# Altium schematic symbol library WR-DSUB_Female.SchLib: 33 symbols
Pins are listed as number, name and electrical type; pins without a type are passive.

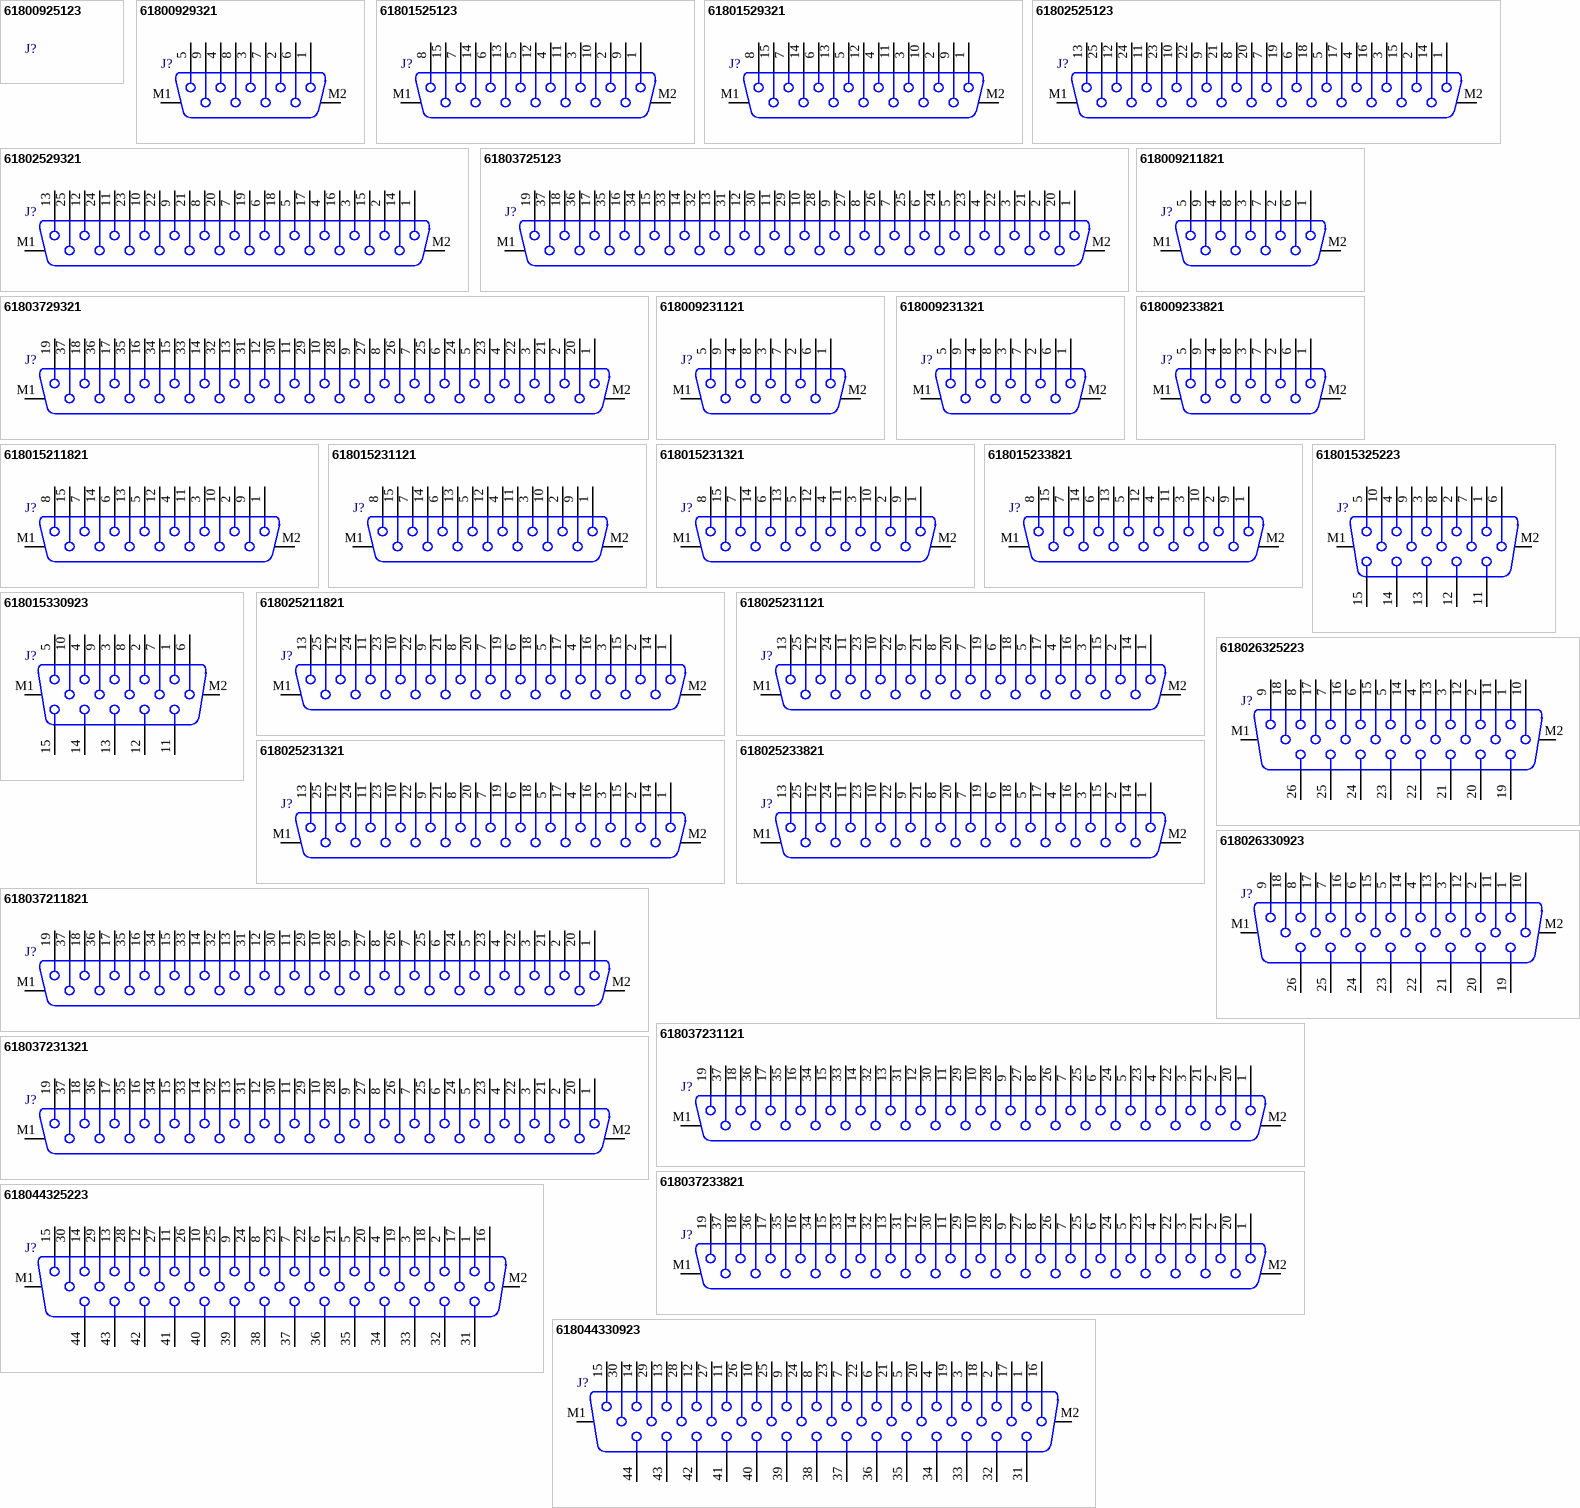
[diagram p0: symbols 61800925123 to 618044330923]

## 61800925123
designator J?
Female PCB Connector WR-DSUB, Vertical, 9 pins; Part Number: 61800925123; Pin Number: 9; Rated Current: 3 A; Contact Resistance: 30 mOhm; Working Voltage: 125 VAC; ComponentLink1Description: Manufacturer; ComponentLink1URL: http://www.we-online.de; ComponentLink2Description: Datasheet; ComponentLink2URL: https://katalog.we-online.de/em/datasheet/6180xx25123.pdf; Published Date: September 2018; Publisher: Wurth Elektronik; Orientation: Vertical; Operating Temperature: -40 to 85 degC; Mounting Technology: THT; Gender: Female; Packaging: Tray
footprint 61800925123

## 61800929321
designator J?
Female PCB Connector with Hex Screw WR-DSUB, Vertical, 9 pins; Part Number: 61800929321; Pin Number: 9; Rated Current: 3 A; Contact Resistance: 30 mOhm; Working Voltage: 125 VAC; ComponentLink1Description: Manufacturer; ComponentLink1URL: http://www.we-online.de; ComponentLink2Description: Datasheet; ComponentLink2URL: https://katalog.we-online.de/em/datasheet/6180xx29321.pdf; Published Date: September 2018; Publisher: Wurth Elektronik; Orientation: Vertical; Operating Temperature: -40 to 85 degC; Mounting Technology: THT; Gender: Female; Packaging: Tray
footprint 61800929321
pins: 1, 2, 3, 4, 5, 6, 7, 8, 9, M1, M2

## 61801525123
designator J?
Female PCB Connector WR-DSUB, Vertical, 15 pins; Part Number: 61801525123; Pin Number: 15; Rated Current: 3 A; Contact Resistance: 30 mOhm; Working Voltage: 125 VAC; ComponentLink1Description: Manufacturer; ComponentLink1URL: http://www.we-online.de; ComponentLink2Description: Datasheet; ComponentLink2URL: https://katalog.we-online.de/em/datasheet/6180xx25123.pdf; Published Date: September 2018; Publisher: Wurth Elektronik; Orientation: Vertical; Operating Temperature: -40 to 85 degC; Mounting Technology: THT; Gender: Female; Packaging: Tray
footprint 61801525123
pins: 1, 2, 3, 4, 5, 6, 7, 8, 9, 10, 11, 12, 13, 14, 15, M1, M2

## 61801529321
designator J?
Female PCB Connector with Hex Screw WR-DSUB, Vertical, 15 pins; Part Number: 61801529321; Pin Number: 15; Rated Current: 3 A; Contact Resistance: 30 mOhm; Working Voltage: 125 VAC; ComponentLink1Description: Manufacturer; ComponentLink1URL: http://www.we-online.de; ComponentLink2Description: Datasheet; ComponentLink2URL: https://katalog.we-online.de/em/datasheet/6180xx29321.pdf; Published Date: September 2018; Publisher: Wurth Elektronik; Orientation: Vertical; Operating Temperature: -40 to 85 degC; Mounting Technology: THT; Gender: Female; Packaging: Tray
footprint 61801529321
pins: 1, 2, 3, 4, 5, 6, 7, 8, 9, 10, 11, 12, 13, 14, 15, M1, M2

## 61802525123
designator J?
Female PCB Connector WR-DSUB, Vertical, 25 pins; Part Number: 61802525123; Pin Number: 25; Rated Current: 3 A; Contact Resistance: 30 mOhm; Working Voltage: 125 VAC; ComponentLink1Description: Manufacturer; ComponentLink1URL: http://www.we-online.de; ComponentLink2Description: Datasheet; ComponentLink2URL: https://katalog.we-online.de/em/datasheet/6180xx25123.pdf; Published Date: September 2018; Publisher: Wurth Elektronik; Orientation: Vertical; Operating Temperature: -40 to 85 degC; Mounting Technology: THT; Gender: Female; Packaging: Tray
footprint 61802525123
pins: 1, 2, 3, 4, 5, 6, 7, 8, 9, 10, 11, 12, 13, 14, 15, 16, 17, 18, 19, 20, 21, 22, 23, 24, 25, M1, M2

## 61802529321
designator J?
Female PCB Connector with Hex Screw WR-DSUB, Vertical, 25 pins; Part Number: 61802529321; Pin Number: 25; Rated Current: 3 A; Contact Resistance: 30 mOhm; Working Voltage: 125 VAC; ComponentLink1Description: Manufacturer; ComponentLink1URL: http://www.we-online.de; ComponentLink2Description: Datasheet; ComponentLink2URL: https://katalog.we-online.de/em/datasheet/6180xx29321.pdf; Published Date: September 2018; Publisher: Wurth Elektronik; Orientation: Vertical; Operating Temperature: -40 to 85 degC; Mounting Technology: THT; Gender: Female; Packaging: Tray
footprint 61802529321
pins: 1, 2, 3, 4, 5, 6, 7, 8, 9, 10, 11, 12, 13, 14, 15, 16, 17, 18, 19, 20, 21, 22, 23, 24, 25, M1, M2

## 61803725123
designator J?
Female PCB Connector WR-DSUB, Vertical, 37 pins; Part Number: 61803725123; Pin Number: 37; Rated Current: 3 A; Contact Resistance: 30 mOhm; Working Voltage: 125 VAC; ComponentLink1Description: Manufacturer; ComponentLink1URL: http://www.we-online.de; ComponentLink2Description: Datasheet; ComponentLink2URL: https://katalog.we-online.de/em/datasheet/6180xx25123.pdf; Published Date: September 2018; Publisher: Wurth Elektronik; Orientation: Vertical; Operating Temperature: -40 to 85 degC; Mounting Technology: THT; Gender: Female; Packaging: Tray
footprint 61803725123
pins: 1, 2, 3, 4, 5, 6, 7, 8, 9, 10, 11, 12, 13, 14, 15, 16, 17, 18, 19, 20, 21, 22, 23, 24, 25, 26, 27, 28, 29, 30, 31, 32, 33, 34, 35, 36, 37, M1, M2

## 61803729321
designator J?
Female PCB Connector with Hex Screw WR-DSUB, Vertical, 37 pins; Part Number: 61803729321; Pin Number: 37; Rated Current: 3 A; Contact Resistance: 30 mOhm; Working Voltage: 125 VAC; ComponentLink1Description: Manufacturer; ComponentLink1URL: http://www.we-online.de; ComponentLink2Description: Datasheet; ComponentLink2URL: https://katalog.we-online.de/em/datasheet/6180xx29321.pdf; Published Date: September 2018; Publisher: Wurth Elektronik; Orientation: Vertical; Operating Temperature: -40 to 85 degC; Mounting Technology: THT; Gender: Female; Packaging: Tray
footprint 61803729321
pins: 1, 2, 3, 4, 5, 6, 7, 8, 9, 10, 11, 12, 13, 14, 15, 16, 17, 18, 19, 20, 21, 22, 23, 24, 25, 26, 27, 28, 29, 30, 31, 32, 33, 34, 35, 36, 37, M1, M2

## 618009211821
designator J?
Female PCB Connector without Hex Screw WR-DSUB, 8.08 mm, Angled, 9 pins; Part Number: 618009211821; Pin Number: 9; Rated Current: 3 A; Contact Resistance: 30 mOhm; Working Voltage: 125 VAC; ComponentLink1Description: Manufacturer; ComponentLink1URL: http://www.we-online.de; ComponentLink2Description: Datasheet; ComponentLink2URL: https://katalog.we-online.de/em/datasheet/6180xx211821.pdf; Published Date: September 2018; Publisher: Wurth Elektronik; Orientation: Angled; Operating Temperature: -40 to 85 degC; Mounting Technology: THT; Gender: Female; Packaging: Tray
footprint 618009211821
pins: 1, 2, 3, 4, 5, 6, 7, 8, 9, M1, M2

## 618009231121
designator J?
Female PCB Connector with Hex Screw WR-DSUB, 8.08 mm, Angled, 9 pins; Part Number: 618009231121; Pin Number: 9; Rated Current: 3 A; Contact Resistance: 30 mOhm; Working Voltage: 125 VAC; ComponentLink1Description: Manufacturer; ComponentLink1URL: http://www.we-online.de; ComponentLink2Description: Datasheet; ComponentLink2URL: https://katalog.we-online.de/em/datasheet/6180xx231121.pdf; Published Date: September 2018; Publisher: Wurth Elektronik; Orientation: Angled; Operating Temperature: -40 to 85 degC; Mounting Technology: THT; Gender: Female; Packaging: Tray
footprint 618009231121
pins: 1, 2, 3, 4, 5, 6, 7, 8, 9, M1, M2

## 618009231321
designator J?
Female PCB Connector with Hex Screw WR-DSUB, 10.30 mm, Angled, 9 pins; Part Number: 618009231321; Pin Number: 9; Rated Current: 3 A; Contact Resistance: 30 mOhm; Working Voltage: 125 VAC; ComponentLink1Description: Manufacturer; ComponentLink1URL: http://www.we-online.de; ComponentLink2Description: Datasheet; ComponentLink2URL: https://katalog.we-online.de/em/datasheet/6180xx231321.pdf; Published Date: September 2018; Publisher: Wurth Elektronik; Orientation: Angled; Operating Temperature: -40 to 85 degC; Mounting Technology: THT; Gender: Female; Packaging: Tray
footprint 618009231321
pins: 1, 2, 3, 4, 5, 6, 7, 8, 9, M1, M2

## 618009233821
designator J?
Female PCB Connector without Hex Screw WR-DSUB, 10.30 mm, Angled, 9 pins; Part Number: 618009233821; Pin Number: 9; Rated Current: 3 A; Contact Resistance: 30 mOhm; Working Voltage: 125 VAC; ComponentLink1Description: Manufacturer; ComponentLink1URL: http://www.we-online.de; ComponentLink2Description: Datasheet; ComponentLink2URL: https://katalog.we-online.de/em/datasheet/6180xx233821.pdf; Published Date: September 2018; Publisher: Wurth Elektronik; Orientation: Angled; Operating Temperature: -40 to 85 degC; Mounting Technology: THT; Gender: Female; Packaging: Tray
footprint 618009233821
pins: 1, 2, 3, 4, 5, 6, 7, 8, 9, M1, M2

## 618015211821
designator J?
Female PCB Connector without Hex Screw WR-DSUB, 8.08 mm, Angled, 15 pins; Part Number: 618015211821; Pin Number: 15; Rated Current: 3 A; Contact Resistance: 30 mOhm; Working Voltage: 125 VAC; ComponentLink1Description: Manufacturer; ComponentLink1URL: http://www.we-online.de; ComponentLink2Description: Datasheet; ComponentLink2URL: https://katalog.we-online.de/em/datasheet/6180xx211821.pdf; Published Date: September 2018; Publisher: Wurth Elektronik; Orientation: Angled; Operating Temperature: -40 to 85 degC; Mounting Technology: THT; Gender: Female; Packaging: Tray
footprint 618015211821
pins: 1, 2, 3, 4, 5, 6, 7, 8, 9, 10, 11, 12, 13, 14, 15, M1, M2

## 618015231121
designator J?
Female PCB Connector with Hex Screw WR-DSUB, 8.08 mm, Angled, 15 pins; Part Number: 618015231121; Pin Number: 15; Rated Current: 3 A; Contact Resistance: 30 mOhm; Working Voltage: 125 VAC; ComponentLink1Description: Manufacturer; ComponentLink1URL: http://www.we-online.de; ComponentLink2Description: Datasheet; ComponentLink2URL: https://katalog.we-online.de/em/datasheet/6180xx231121.pdf; Published Date: September 2018; Publisher: Wurth Elektronik; Orientation: Angled; Operating Temperature: -40 to 85 degC; Mounting Technology: THT; Gender: Female; Packaging: Tray
footprint 618015231121
pins: 1, 2, 3, 4, 5, 6, 7, 8, 9, 10, 11, 12, 13, 14, 15, M1, M2

## 618015231321
designator J?
Female PCB Connector with Hex Screw WR-DSUB, 10.30 mm, Angled, 15 pins; Part Number: 618015231321; Pin Number: 15; Rated Current: 3 A; Contact Resistance: 30 mOhm; Working Voltage: 125 VAC; ComponentLink1Description: Manufacturer; ComponentLink1URL: http://www.we-online.de; ComponentLink2Description: Datasheet; ComponentLink2URL: https://katalog.we-online.de/em/datasheet/6180xx231321.pdf; Published Date: September 2018; Publisher: Wurth Elektronik; Orientation: Angled; Operating Temperature: -40 to 85 degC; Mounting Technology: THT; Gender: Female; Packaging: Tray
footprint 618015231321
pins: 1, 2, 3, 4, 5, 6, 7, 8, 9, 10, 11, 12, 13, 14, 15, M1, M2

## 618015233821
designator J?
Female PCB Connector without Hex Screw WR-DSUB, 10.30 mm, Angled, 15 pins; Part Number: 618015233821; Pin Number: 15; Rated Current: 3 A; Contact Resistance: 30 mOhm; Working Voltage: 125 VAC; ComponentLink1Description: Manufacturer; ComponentLink1URL: http://www.we-online.de; ComponentLink2Description: Datasheet; ComponentLink2URL: https://katalog.we-online.de/em/datasheet/6180xx233821.pdf; Published Date: September 2018; Publisher: Wurth Elektronik; Orientation: Angled; Operating Temperature: -40 to 85 degC; Mounting Technology: THT; Gender: Female; Packaging: Tray
footprint 618015233821
pins: 1, 2, 3, 4, 5, 6, 7, 8, 9, 10, 11, 12, 13, 14, 15, M1, M2

## 618015325223
designator J?
Female High Density PCB Connector without Hex Screw WR-DSUB, Angled, 15 pins; Part Number: 618015325223; Pin Number: 15; Rated Current: 3 A; Contact Resistance: 30 mOhm; Working Voltage: 60 VAC; ComponentLink1Description: Manufacturer; ComponentLink1URL: http://www.we-online.de; ComponentLink2Description: Datasheet; ComponentLink2URL: https://katalog.we-online.de/em/datasheet/6180xx325223.pdf; Published Date: September 2018; Publisher: Wurth Elektronik; Orientation: Angled; Operating Temperature: -40 to 85 degC; Mounting Technology: THT; Gender: Female; Packaging: Tray
footprint 618015325223
pins: 1, 2, 3, 4, 5, 6, 7, 8, 9, 10, 11, 12, 13, 14, 15, M1, M2

## 618015330923
designator J?
Female High Density PCB Connector with Hex Screw WR-DSUB, Angled, 15 pins; Part Number: 618015330923; Pin Number: 15; Rated Current: 3 A; Contact Resistance: 30 mOhm; Working Voltage: 60 VAC; ComponentLink1Description: Manufacturer; ComponentLink1URL: http://www.we-online.de; ComponentLink2Description: Datasheet; ComponentLink2URL: https://katalog.we-online.de/em/datasheet/6180xx330923.pdf; Published Date: September 2018; Publisher: Wurth Elektronik; Orientation: Angled; Operating Temperature: -40 to 85 degC; Mounting Technology: THT; Gender: Female; Packaging: Tray
footprint 618015330923
pins: 1, 2, 3, 4, 5, 6, 7, 8, 9, 10, 11, 12, 13, 14, 15, M1, M2

## 618025211821
designator J?
Female PCB Connector without Hex Screw WR-DSUB, 8.08 mm, Angled, 25 pins; Part Number: 618025211821; Pin Number: 25; Rated Current: 3 A; Contact Resistance: 30 mOhm; Working Voltage: 125 VAC; ComponentLink1Description: Manufacturer; ComponentLink1URL: http://www.we-online.de; ComponentLink2Description: Datasheet; ComponentLink2URL: https://katalog.we-online.de/em/datasheet/6180xx211821.pdf; Published Date: September 2018; Publisher: Wurth Elektronik; Orientation: Angled; Operating Temperature: -40 to 85 degC; Mounting Technology: THT; Gender: Female; Packaging: Tray
footprint 618025211821
pins: 1, 2, 3, 4, 5, 6, 7, 8, 9, 10, 11, 12, 13, 14, 15, 16, 17, 18, 19, 20, 21, 22, 23, 24, 25, M1, M2

## 618025231121
designator J?
Female PCB Connector with Hex Screw WR-DSUB, 8.08 mm, Angled, 25 pins; Part Number: 618025231121; Pin Number: 25; Rated Current: 3 A; Contact Resistance: 30 mOhm; Working Voltage: 125 VAC; ComponentLink1Description: Manufacturer; ComponentLink1URL: http://www.we-online.de; ComponentLink2Description: Datasheet; ComponentLink2URL: https://katalog.we-online.de/em/datasheet/6180xx231121.pdf; Published Date: September 2018; Publisher: Wurth Elektronik; Orientation: Angled; Operating Temperature: -40 to 85 degC; Mounting Technology: THT; Gender: Female; Packaging: Tray
footprint 618025231121
pins: 1, 2, 3, 4, 5, 6, 7, 8, 9, 10, 11, 12, 13, 14, 15, 16, 17, 18, 19, 20, 21, 22, 23, 24, 25, M1, M2

## 618025231321
designator J?
Female PCB Connector with Hex Screw WR-DSUB, 10.30 mm, Angled, 25 pins; Part Number: 618025231321; Pin Number: 25; Rated Current: 3 A; Contact Resistance: 30 mOhm; Working Voltage: 125 VAC; ComponentLink1Description: Manufacturer; ComponentLink1URL: http://www.we-online.de; ComponentLink2Description: Datasheet; ComponentLink2URL: https://katalog.we-online.de/em/datasheet/6180xx231321.pdf; Published Date: September 2018; Publisher: Wurth Elektronik; Orientation: Angled; Operating Temperature: -40 to 85 degC; Mounting Technology: THT; Gender: Female; Packaging: Tray
footprint 618025231321
pins: 1, 2, 3, 4, 5, 6, 7, 8, 9, 10, 11, 12, 13, 14, 15, 16, 17, 18, 19, 20, 21, 22, 23, 24, 25, M1, M2

## 618025233821
designator J?
Female PCB Connector without Hex Screw WR-DSUB, 10.30 mm, Angled, 25 pins; Part Number: 618025233821; Pin Number: 25; Rated Current: 3 A; Contact Resistance: 30 mOhm; Working Voltage: 125 VAC; ComponentLink1Description: Manufacturer; ComponentLink1URL: http://www.we-online.de; ComponentLink2Description: Datasheet; ComponentLink2URL: https://katalog.we-online.de/em/datasheet/6180xx233821.pdf; Published Date: September 2018; Publisher: Wurth Elektronik; Orientation: Angled; Operating Temperature: -40 to 85 degC; Mounting Technology: THT; Gender: Female; Packaging: Tray
footprint 618025233821
pins: 1, 2, 3, 4, 5, 6, 7, 8, 9, 10, 11, 12, 13, 14, 15, 16, 17, 18, 19, 20, 21, 22, 23, 24, 25, M1, M2

## 618026325223
designator J?
Female High Density PCB Connector without Hex Screw WR-DSUB, Angled, 26 pins; Part Number: 618026325223; Pin Number: 26; Rated Current: 3 A; Contact Resistance: 30 mOhm; Working Voltage: 60 VAC; ComponentLink1Description: Manufacturer; ComponentLink1URL: http://www.we-online.de; ComponentLink2Description: Datasheet; ComponentLink2URL: https://katalog.we-online.de/em/datasheet/6180xx325223.pdf; Published Date: September 2018; Publisher: Wurth Elektronik; Orientation: Angled; Operating Temperature: -40 to 85 degC; Mounting Technology: THT; Gender: Female; Packaging: Tray
footprint 618026325223
pins: 1, 2, 3, 4, 5, 6, 7, 8, 9, 10, 11, 12, 13, 14, 15, 16, 17, 18, 19, 20, 21, 22, 23, 24, 25, 26, M1, M2

## 618026330923
designator J?
Female High Density PCB Connector with Hex Screw WR-DSUB, Angled, 26 pins; Part Number: 618026330923; Pin Number: 26; Rated Current: 3 A; Contact Resistance: 30 mOhm; Working Voltage: 60 VAC; ComponentLink1Description: Manufacturer; ComponentLink1URL: http://www.we-online.de; ComponentLink2Description: Datasheet; ComponentLink2URL: https://katalog.we-online.de/em/datasheet/6180xx330923.pdf; Published Date: September 2018; Publisher: Wurth Elektronik; Orientation: Angled; Operating Temperature: -40 to 85 degC; Mounting Technology: THT; Gender: Female; Packaging: Tray
footprint 618026330923
pins: 1, 2, 3, 4, 5, 6, 7, 8, 9, 10, 11, 12, 13, 14, 15, 16, 17, 18, 19, 20, 21, 22, 23, 24, 25, 26, M1, M2

## 618037211821
designator J?
Female PCB Connector without Hex Screw WR-DSUB, 8.08 mm, Angled, 37 pins; Part Number: 618037211821; Pin Number: 37; Rated Current: 3 A; Contact Resistance: 30 mOhm; Working Voltage: 125 VAC; ComponentLink1Description: Manufacturer; ComponentLink1URL: http://www.we-online.de; ComponentLink2Description: Datasheet; ComponentLink2URL: https://katalog.we-online.de/em/datasheet/6180xx211821.pdf; Published Date: September 2018; Publisher: Wurth Elektronik; Orientation: Angled; Operating Temperature: -40 to 85 degC; Mounting Technology: THT; Gender: Female; Packaging: Tray
footprint 618037211821
pins: 1, 2, 3, 4, 5, 6, 7, 8, 9, 10, 11, 12, 13, 14, 15, 16, 17, 18, 19, 20, 21, 22, 23, 24, 25, 26, 27, 28, 29, 30, 31, 32, 33, 34, 35, 36, 37, M1, M2

## 618037231121
designator J?
Female PCB Connector with Hex Screw WR-DSUB, 8.08 mm, Angled, 37 pins; Part Number: 618037231121; Pin Number: 37; Rated Current: 3 A; Contact Resistance: 30 mOhm; Working Voltage: 125 VAC; ComponentLink1Description: Manufacturer; ComponentLink1URL: http://www.we-online.de; ComponentLink2Description: Datasheet; ComponentLink2URL: https://katalog.we-online.de/em/datasheet/6180xx231121.pdf; Published Date: September 2018; Publisher: Wurth Elektronik; Orientation: Angled; Operating Temperature: -40 to 85 degC; Mounting Technology: THT; Gender: Female; Packaging: Tray
footprint 618037231121
pins: 1, 2, 3, 4, 5, 6, 7, 8, 9, 10, 11, 12, 13, 14, 15, 16, 17, 18, 19, 20, 21, 22, 23, 24, 25, 26, 27, 28, 29, 30, 31, 32, 33, 34, 35, 36, 37, M1, M2

## 618037231321
designator J?
Female PCB Connector with Hex Screw WR-DSUB, 10.30 mm, Angled, 37 pins; Part Number: 618037231321; Pin Number: 37; Rated Current: 3 A; Contact Resistance: 30 mOhm; Working Voltage: 125 VAC; ComponentLink1Description: Manufacturer; ComponentLink1URL: http://www.we-online.de; ComponentLink2Description: Datasheet; ComponentLink2URL: https://katalog.we-online.de/em/datasheet/6180xx231321.pdf; Published Date: September 2018; Publisher: Wurth Elektronik; Orientation: Angled; Operating Temperature: -40 to 85 degC; Mounting Technology: THT; Gender: Female; Packaging: Tray
footprint 618037231321
pins: 1, 2, 3, 4, 5, 6, 7, 8, 9, 10, 11, 12, 13, 14, 15, 16, 17, 18, 19, 20, 21, 22, 23, 24, 25, 26, 27, 28, 29, 30, 31, 32, 33, 34, 35, 36, 37, M1, M2

## 618037233821
designator J?
Female PCB Connector without Hex Screw WR-DSUB, 10.30 mm, Angled, 37 pins; Part Number: 618037233821; Pin Number: 37; Rated Current: 3 A; Contact Resistance: 30 mOhm; Working Voltage: 125 VAC; ComponentLink1Description: Manufacturer; ComponentLink1URL: http://www.we-online.de; ComponentLink2Description: Datasheet; ComponentLink2URL: https://katalog.we-online.de/em/datasheet/6180xx233821.pdf; Published Date: September 2018; Publisher: Wurth Elektronik; Orientation: Angled; Operating Temperature: -40 to 85 degC; Mounting Technology: THT; Gender: Female; Packaging: Tray
footprint 618037233821
pins: 1, 2, 3, 4, 5, 6, 7, 8, 9, 10, 11, 12, 13, 14, 15, 16, 17, 18, 19, 20, 21, 22, 23, 24, 25, 26, 27, 28, 29, 30, 31, 32, 33, 34, 35, 36, 37, M1, M2

## 618044325223
designator J?
Female High Density PCB Connector without Hex Screw WR-DSUB, Angled, 44 pins; Part Number: 618044325223; Pin Number: 44; Rated Current: 3 A; Contact Resistance: 30 mOhm; Working Voltage: 60 VAC; ComponentLink1Description: Manufacturer; ComponentLink1URL: http://www.we-online.de; ComponentLink2Description: Datasheet; ComponentLink2URL: https://katalog.we-online.de/em/datasheet/6180xx325223.pdf; Published Date: September 2018; Publisher: Wurth Elektronik; Orientation: Angled; Operating Temperature: -40 to 85 degC; Mounting Technology: THT; Gender: Female; Packaging: Tray
footprint 618044325223
pins: 1, 2, 3, 4, 5, 6, 7, 8, 9, 10, 11, 12, 13, 14, 15, 16, 17, 18, 19, 20, 21, 22, 23, 24, 25, 26, 27, 28, 29, 30, 31, 32, 33, 34, 35, 36, 37, 38, 39, 40, 41, 42, 43, 44, M1, M2

## 618044330923
designator J?
Female High Density PCB Connector with Hex Screw WR-DSUB, Angled, 44 pins; Part Number: 618044330923; Pin Number: 44; Rated Current: 3 A; Contact Resistance: 30 mOhm; Working Voltage: 60 VAC; ComponentLink1Description: Manufacturer; ComponentLink1URL: http://www.we-online.de; ComponentLink2Description: Datasheet; ComponentLink2URL: https://katalog.we-online.de/em/datasheet/6180xx330923.pdf; Published Date: September 2018; Publisher: Wurth Elektronik; Orientation: Angled; Operating Temperature: -40 to 85 degC; Mounting Technology: THT; Gender: Female; Packaging: Tray
footprint 618044330923
pins: 1, 2, 3, 4, 5, 6, 7, 8, 9, 10, 11, 12, 13, 14, 15, 16, 17, 18, 19, 20, 21, 22, 23, 24, 25, 26, 27, 28, 29, 30, 31, 32, 33, 34, 35, 36, 37, 38, 39, 40, 41, 42, 43, 44, M1, M2

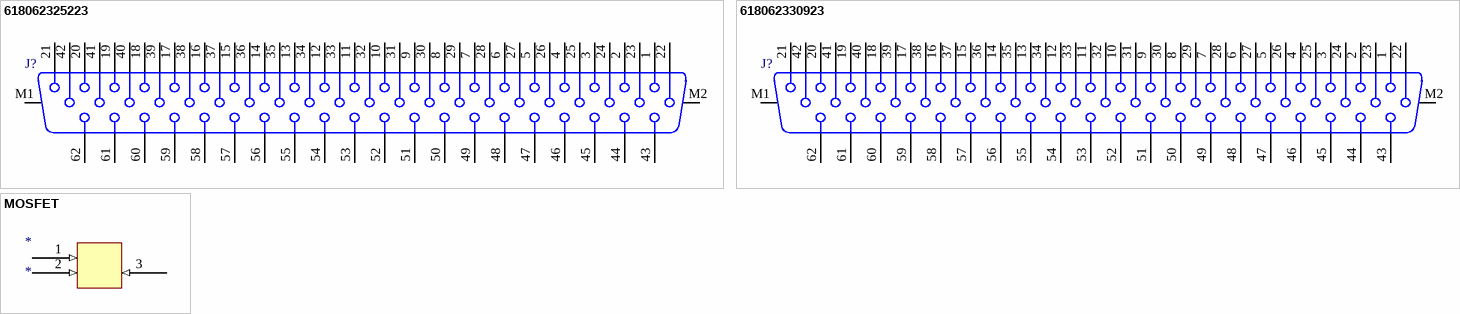
[diagram p1: symbols 618062325223 to MOSFET]

## 618062325223
designator J?
Female High Density PCB Connector without Hex Screw WR-DSUB, Angled, 62 pins; Part Number: 618062325223; Pin Number: 62; Rated Current: 3 A; Contact Resistance: 30 mOhm; Working Voltage: 60 VAC; ComponentLink1Description: Manufacturer; ComponentLink1URL: http://www.we-online.de; ComponentLink2Description: Datasheet; ComponentLink2URL: https://katalog.we-online.de/em/datasheet/6180xx325223.pdf; Published Date: September 2018; Publisher: Wurth Elektronik; Orientation: Angled; Operating Temperature: -40 to 85 degC; Mounting Technology: THT; Gender: Female; Packaging: Tray
footprint 618062325223
pins: 1, 2, 3, 4, 5, 6, 7, 8, 9, 10, 11, 12, 13, 14, 15, 16, 17, 18, 19, 20, 21, 22, 23, 24, 25, 26, 27, 28, 29, 30, 31, 32, 33, 34, 35, 36, 37, 38, 39, 40, 41, 42, 43, 44, 45, 46, 47, 48, 49, 50, 51, 52, 53, 54, 55, 56, 57, 58, 59, 60, 61, 62, M1, M2

## 618062330923
designator J?
Female High Density PCB Connector with Hex Screw WR-DSUB, Angled, 62 pins; Part Number: 618062330923; Pin Number: 62; Rated Current: 3 A; Contact Resistance: 30 mOhm; Working Voltage: 60 VAC; ComponentLink1Description: Manufacturer; ComponentLink1URL: http://www.we-online.de; ComponentLink2Description: Datasheet; ComponentLink2URL: https://katalog.we-online.de/em/datasheet/6180xx330923.pdf; Published Date: September 2018; Publisher: Wurth Elektronik; Orientation: Angled; Operating Temperature: -40 to 85 degC; Mounting Technology: THT; Gender: Female; Packaging: Tray
footprint 618062330923
pins: 1, 2, 3, 4, 5, 6, 7, 8, 9, 10, 11, 12, 13, 14, 15, 16, 17, 18, 19, 20, 21, 22, 23, 24, 25, 26, 27, 28, 29, 30, 31, 32, 33, 34, 35, 36, 37, 38, 39, 40, 41, 42, 43, 44, 45, 46, 47, 48, 49, 50, 51, 52, 53, 54, 55, 56, 57, 58, 59, 60, 61, 62, M1, M2

## MOSFET
designator *
pins: 1 (in), 2 (in), 3 (in)